# EAGLE library part SUPERTEX-HV857L (library LITTLEBITS140826)
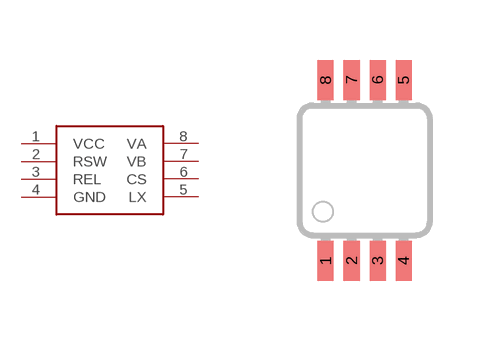
[diagram p7: symbol with the pads of MSOP08; footprint MSOP08]

Designator prefix -

## SUPERTEX-HV857LMSOP08  [MSOP08]
1  VCC
2  RSW
3  REL
4  GND
5  LX
6  CS
7  VB
8  VA

## Footprint MSOP08 (pad centres in mm)
smd 0.4 x 1: 1 0.294,-0.993; 2 0.944,-0.993; 3 1.594,-0.993; 4 2.244,-0.993; 5 2.244,3.532; 6 1.594,3.532; 7 0.944,3.532; 8 0.294,3.532